# EAGLE library part 1X18-MALE-RECEPTACLE-RIGHT (library DSX_Library)
Check prices <https://pricing.snapeda.com/parts/TBP01R1-508-18BE/CUI%20Devices/view-part?ref=eda>
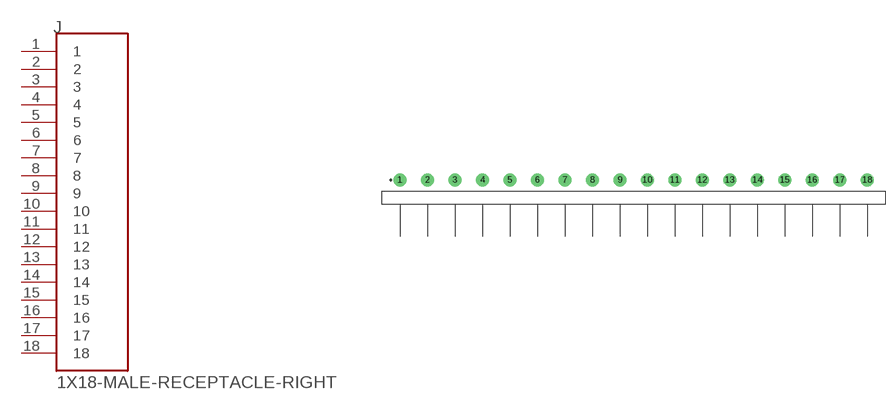
[diagram p1: symbol with the pads of HDRRA18W100P508_1X18_9304X254X556B; footprint HDRRA18W100P508_1X18_9304X254X556B]

Designator prefix J

## 1X18-MALE-RECEPTACLE-RIGHT1X18RREC  [HDRRA18W100P508_1X18_9304X254X556B]
1  1  pas
2  2  pas
3  3  pas
4  4  pas
5  5  pas
6  6  pas
7  7  pas
8  8  pas
9  9  pas
10  10  pas
11  11  pas
12  12  pas
13  13  pas
14  14  pas
15  15  pas
16  16  pas
17  17  pas
18  18  pas

## Footprint HDRRA18W100P508_1X18_9304X254X556B (pad centres in mm)
Single-row, 18-pin Pin Header (Male) Right Angle, 5.08 mm (0.20 in) col pitch, 5.84 mm mating length, 93.04 X 2.54 X 5.56 mm body Single-row (1X18), 18-pin Pin Header (Male) Right Angle package with 5.08 mm (0.20 in) col pitch, 1.00 mm lead width, 3.00 mm tail length and 5.84 mm mating length with body size 93.04 X 2.54 X 5.56 mm, pin pattern - clockwise from top left
drill 1.614 pad 2.421: 1 0,0; 2 5.08,0; 3 10.16,0; 4 15.24,0; 5 20.32,0; 6 25.4,0; 7 30.48,0; 8 35.56,0; 9 40.64,0; 10 45.72,0; 11 50.8,0; 12 55.88,0; 13 60.96,0; 14 66.04,0; 15 71.12,0; 16 76.2,0; 17 81.28,0; 18 86.36,0